# Altium schematic symbol library Schlib1.SchLib: 1 symbol
Pins are listed as number, name and electrical type; pins without a type are passive.

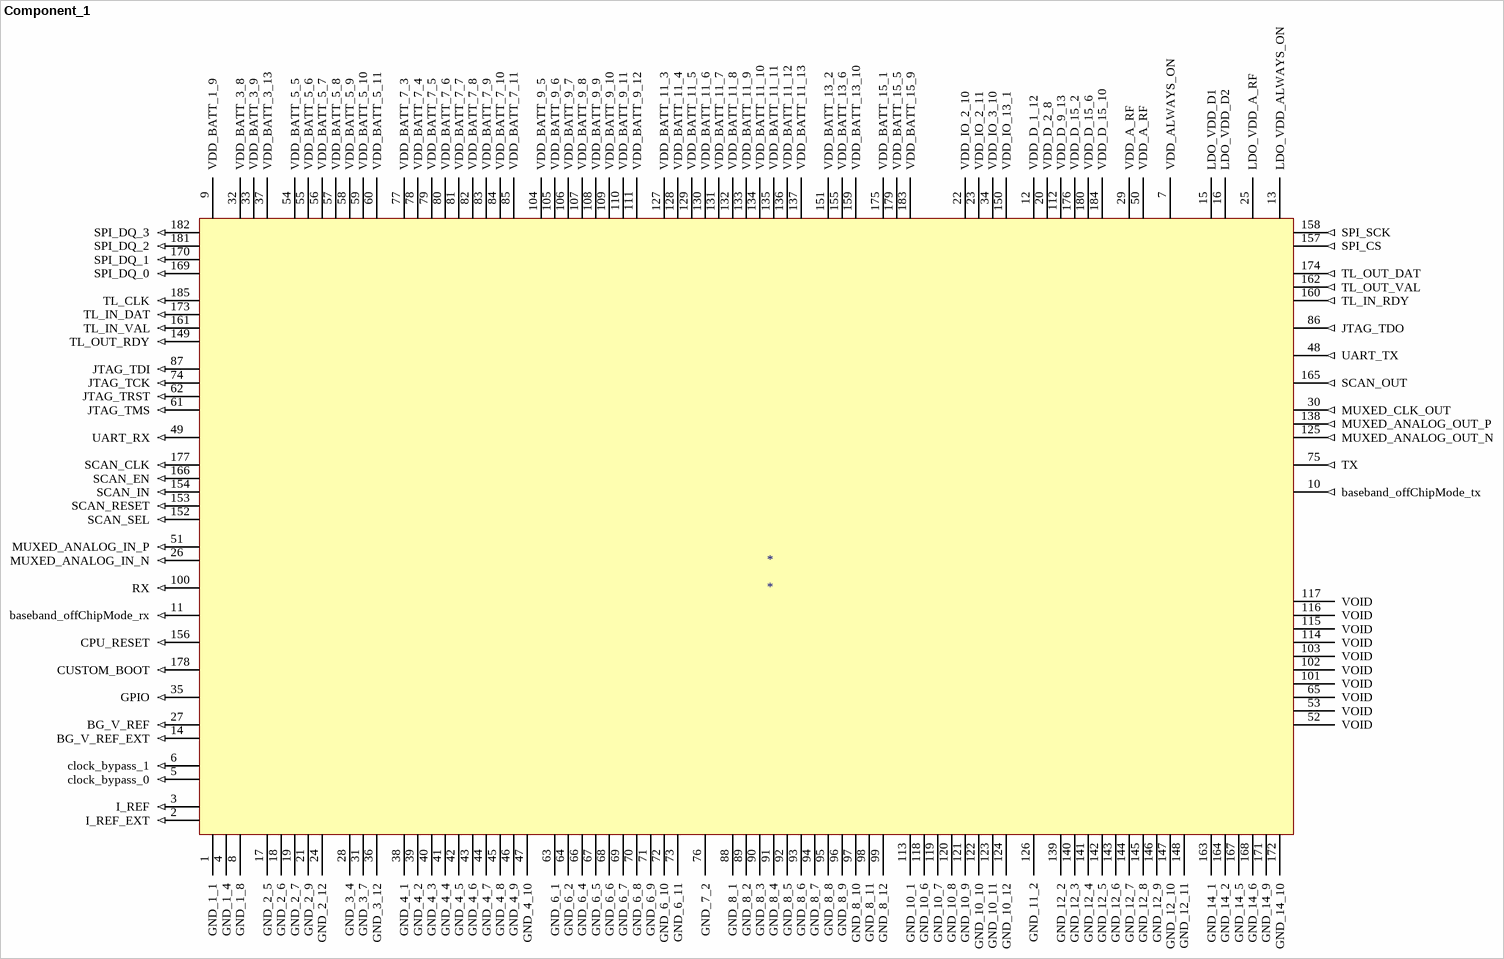
[diagram p0: symbol Component_1]

## Component_1
designator *
pins: 1 GND_1_1 (power), 2 I_REF_EXT (in), 3 I_REF (in), 4 GND_1_4 (power), 5 clock_bypass_0 (in), 6 clock_bypass_1 (in), 7 VDD_ALWAYS_ON (power), 8 GND_1_8 (power), 9 VDD_BATT_1_9 (power), 10 baseband_offChipMode_tx (out), 11 baseband_offChipMode_rx (in), 12 VDD_D_1_12 (power), 13 LDO_VDD_ALWAYS_ON (power), 14 BG_V_REF_EXT (in), 15 LDO_VDD_D1 (power), 16 LDO_VDD_D2 (power), 17 GND_2_5 (power), 18 GND_2_6 (power), 19 GND_2_7 (power), 20 VDD_D_2_8 (power), 21 GND_2_9 (power), 22 VDD_IO_2_10 (power), 23 VDD_IO_2_11 (power), 24 GND_2_12 (power), 25 LDO_VDD_A_RF (power), 26 MUXED_ANALOG_IN_N (in), 27 BG_V_REF (in), 28 GND_3_4 (power), 29 VDD_A_RF (power), 30 MUXED_CLK_OUT (out), 31 GND_3_7 (power), 32 VDD_BATT_3_8 (power), 33 VDD_BATT_3_9 (power), 34 VDD_IO_3_10 (power), 35 GPIO (in), 36 GND_3_12 (power), 37 VDD_BATT_3_13 (power), 38 GND_4_1 (power), 39 GND_4_2 (power), 40 GND_4_3 (power), 41 GND_4_4 (power), 42 GND_4_5 (power), 43 GND_4_6 (power), 44 GND_4_7 (power), 45 GND_4_8 (power), 46 GND_4_9 (power), 47 GND_4_10 (power), 48 UART_TX (out), 49 UART_RX (in), 50 VDD_A_RF (power), 51 MUXED_ANALOG_IN_P (in), 52 VOID (hiz), 53 VOID (hiz), 54 VDD_BATT_5_5 (power), 55 VDD_BATT_5_6 (power), 56 VDD_BATT_5_7 (power), 57 VDD_BATT_5_8 (power), 58 VDD_BATT_5_9 (power), 59 VDD_BATT_5_10 (power), 60 VDD_BATT_5_11 (power), 61 JTAG_TMS (in), 62 JTAG_TRST (in), 63 GND_6_1 (power), 64 GND_6_2 (power), 65 VOID (hiz), 66 GND_6_4 (power), 67 GND_6_5 (power), 68 GND_6_6 (power), 69 GND_6_7 (power), 70 GND_6_8 (power), 71 GND_6_9 (power), 72 GND_6_10 (power), 73 GND_6_11 (power), 74 JTAG_TCK (in), 75 TX (out), 76 GND_7_2 (power), 77 VDD_BATT_7_3 (power), 78 VDD_BATT_7_4 (power), 79 VDD_BATT_7_5 (power), 80 VDD_BATT_7_6 (power), 81 VDD_BATT_7_7 (power), 82 VDD_BATT_7_8 (power), 83 VDD_BATT_7_9 (power), 84 VDD_BATT_7_10 (power), 85 VDD_BATT_7_11 (power), 86 JTAG_TDO (out), 87 JTAG_TDI (in), 88 GND_8_1 (power), 89 GND_8_2 (power), 90 GND_8_3 (power), 91 GND_8_4 (power), 92 GND_8_5 (power), 93 GND_8_6 (power), 94 GND_8_7 (power), 95 GND_8_8 (power), 96 GND_8_9 (power), 97 GND_8_10 (power), 98 GND_8_11 (power), 99 GND_8_12 (power), 100 RX (in), 101 VOID (hiz), 102 VOID (hiz), 103 VOID (hiz), 104 VDD_BATT_9_5 (power), 105 VDD_BATT_9_6 (power), 106 VDD_BATT_9_7 (power), 107 VDD_BATT_9_8 (power), 108 VDD_BATT_9_9 (power), 109 VDD_BATT_9_10 (power), 110 VDD_BATT_9_11 (power), 111 VDD_BATT_9_12 (power), 112 VDD_D_9_13 (power), 113 GND_10_1 (power), 114 VOID (hiz), 115 VOID (hiz), 116 VOID (hiz), 117 VOID (hiz), 118 GND_10_6 (power), 119 GND_10_7 (power), 120 GND_10_8 (power), 121 GND_10_9 (power), 122 GND_10_10 (power), 123 GND_10_11 (power), 124 GND_10_12 (power), 125 MUXED_ANALOG_OUT_N (out), 126 GND_11_2 (power), 127 VDD_BATT_11_3 (power), 128 VDD_BATT_11_4 (power), 129 VDD_BATT_11_5 (power), 130 VDD_BATT_11_6 (power), 131 VDD_BATT_11_7 (power), 132 VDD_BATT_11_8 (power), 133 VDD_BATT_11_9 (power), 134 VDD_BATT_11_10 (power), 135 VDD_BATT_11_11 (power), 136 VDD_BATT_11_12 (power), 137 VDD_BATT_11_13 (power), 138 MUXED_ANALOG_OUT_P (out), 139 GND_12_2 (power), 140 GND_12_3 (power), 141 GND_12_4 (power), 142 GND_12_5 (power), 143 GND_12_6 (power), 144 GND_12_7 (power), 145 GND_12_8 (power), 146 GND_12_9 (power), 147 GND_12_10 (power), 148 GND_12_11 (power), 149 TL_OUT_RDY (in), 150 VDD_IO_13_1 (power), 151 VDD_BATT_13_2 (power), 152 SCAN_SEL (in), 153 SCAN_RESET (in), 154 SCAN_IN (in), 155 VDD_BATT_13_6 (power), 156 CPU_RESET (in), 157 SPI_CS (out), 158 SPI_SCK (out), 159 VDD_BATT_13_10 (power), 160 TL_IN_RDY (out), 161 TL_IN_VAL (in), 162 TL_OUT_VAL (out), 163 GND_14_1 (power), 164 GND_14_2 (power), 165 SCAN_OUT (out), 166 SCAN_EN (in), 167 GND_14_5 (power), 168 GND_14_6 (power), 169 SPI_DQ_0 (in), 170 SPI_DQ_1 (in), 171 GND_14_9 (power), 172 GND_14_10 (power), 173 TL_IN_DAT (in), 174 TL_OUT_DAT (out), 175 VDD_BATT_15_1 (power), 176 VDD_D_15_2 (power), 177 SCAN_CLK (in), 178 CUSTOM_BOOT (in), 179 VDD_BATT_15_5 (power), 180 VDD_D_15_6 (power), 181 SPI_DQ_2 (in), 182 SPI_DQ_3 (in), 183 VDD_BATT_15_9 (power), 184 VDD_D_15_10 (power), 185 TL_CLK (in)